# Altium footprint library 高通MSM8916 原理图+PCB Layout_QRD8916_2-4-2_half type_main board_V1.01.PcbLib: 111 footprints (part 5 of 7)
Each footprint in its own frame and in the unit in brackets; x right, y up, seen from the top. Pads: shape width x height; smd on the part's side, far side on the other; paste and mask are expansions set on the pad; w line width, h text height; cw(c..) or ccw(c..) is an arc to the next point about the centre after c.
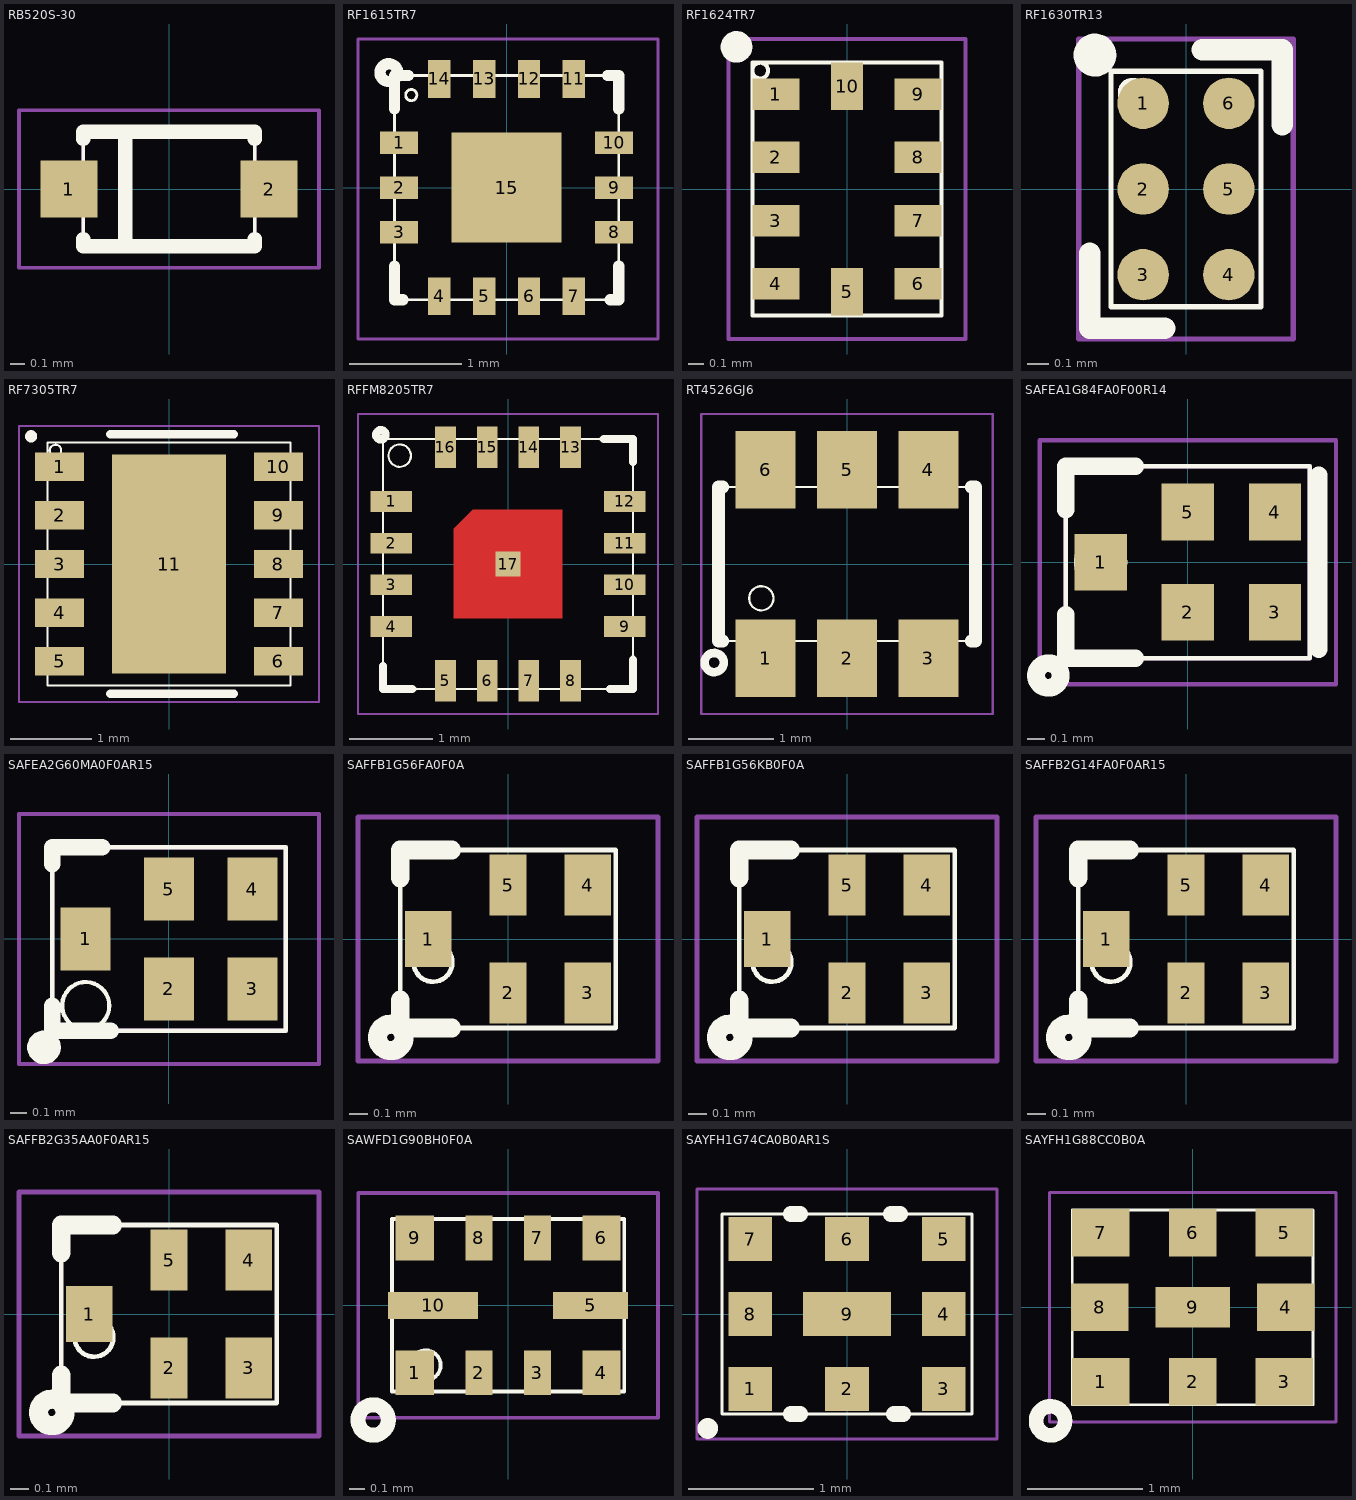
[diagram p4: the footprints below, top view; thin cyan lines are the x and y axes]

## RB520S-30 [mm]
height 0.7
pads (2):
  rect 0.4x0.4 smd mask+0.05: 1(-0.7,0) 2(0.7,0)
Top Overlay:
  lines w0.025: -0.305,-0.425 -0.305,0.375 ; -0.6,-0.4 0.6,-0.4 0.6,0.4 -0.6,0.4 -0.6,-0.4
  lines w0.1: -0.6,-0.35 -0.6,-0.4 0.6,-0.4 0.6,-0.35 ; -0.6,0.35 -0.6,0.4 0.6,0.4 0.6,0.35
  lines w0.102: -0.305,-0.4 -0.305,0.4
Top Assembly:
  lines w0.025: -1.05,-0.55 1.05,-0.55 1.05,0.55 -1.05,0.55 -1.05,-0.55
Mechanical 9:
  lines w0.025: -0.6,-0.4 0.6,-0.4 0.6,0.4 -0.6,0.4 -0.6,-0.4

## RF1615TR7 [mm]
height 0.55
pads (15):
  rect 0.338x0.2 smd paste-0.017 mask+0.05: 1(-0.959,0.4) 2(-0.959,0) 3(-0.959,-0.4) 8(0.959,-0.4) 9(0.959,0) 10(0.959,0.4)
  rect 0.2x0.338 smd paste-0.017 mask+0.05: 4(-0.6,-0.969) 5(-0.2,-0.969) 6(0.2,-0.969) 7(0.6,-0.969) 11(0.6,0.969) 12(0.2,0.969) 13(-0.2,0.969) 14(-0.6,0.969)
  rrect0% 0.98x0.98 smd mask+0.05: 15(0,0)
Top Overlay:
  circle w0.1: c-1.05,1.025 r0.079
  circle w0.025: c-0.85,0.825 r0.05
  lines w0.025: -1,-1 1,-1 1,1 -1,1 -1,-1
  lines w0.1: -1,-0.7 -1,-1 -0.925,-1 ; -1,0.7 -1,1 -0.875,1 ; 0.9,1 1,1 1,0.7 ; 0.925,-1 1,-1 1,-0.7
Top Paste:
  region: -0.45,0.45 -0.1,0.45 -0.1,0.1 -0.45,0.1
  region: 0.1,0.45 0.45,0.45 0.45,0.1 0.1,0.1
  region: -0.45,-0.1 -0.1,-0.1 -0.1,-0.45 -0.45,-0.45
  region: 0.1,-0.1 0.45,-0.1 0.45,-0.45 0.1,-0.45
Top Assembly:
  lines w0.025: -1.325,-1.35 1.35,-1.35 1.35,1.325 -1.325,1.325 -1.325,-1.35

## RF1624TR7 [mm]
height 0.95
pads (10):
  rect 0.3x0.2 smd paste-0.05 mask+0.05: 1(-0.45,0.6) 2(-0.45,0.2) 3(-0.45,-0.2) 4(-0.45,-0.6) 6(0.45,-0.6) 7(0.45,-0.2) 8(0.45,0.2) 9(0.45,0.6)
  rect 0.2x0.3 smd paste-0.05 mask+0.05: 5(0,-0.65) 10(0,0.65)
Top Overlay:
  circle w0.025: c-0.55,0.75 r0.05
  circle w0.1: c-0.7,0.9 r0.05
  lines w0.025: -0.6,-0.8 0.6,-0.8 0.6,0.8 -0.6,0.8 -0.6,-0.8
Top Assembly:
  lines w0.025: -0.75,-0.95 0.75,-0.95 0.75,0.95 -0.75,0.95 -0.75,-0.95

## RF1630TR13 [mm]
height 0.45
pads (6):
  round 0.24 smd mask+0.038: 1(-0.2,0.4) 2(-0.2,0) 3(-0.2,-0.4) 4(0.2,-0.4) 5(0.2,0) 6(0.2,0.4)
Top Overlay:
  circle w0.1: c-0.425,0.625 r0.05
  circle w0.025: c-0.25,0.45 r0.056
  lines w0.025: -0.35,-0.55 0.35,-0.55 0.35,0.55 -0.35,0.55 -0.35,-0.55
  lines w0.1: -0.45,-0.3 -0.45,-0.65 -0.1,-0.65 ; 0.075,0.65 0.45,0.65 0.45,0.3
Top Assembly:
  lines w0.025: -0.5,-0.7 0.5,-0.7 0.5,0.7 -0.5,0.7 -0.5,-0.7

## RF7305TR7 [mm]
height 0.85
pads (11):
  rect 0.6x0.35 smd mask+0.05: 1(-1.35,1.2) 2(-1.35,0.6) 3(-1.35,0) 4(-1.35,-0.6) 5(-1.35,-1.2) 6(1.35,-1.2) 7(1.35,-0.6) 8(1.35,0) 9(1.35,0.6) 10(1.35,1.2)
  rect 1.4x2.7 smd mask+0.05: 11(0,0)
Top Overlay:
  circle w0.025: c-1.4,1.4 r0.071
  circle w0.1: c-1.7,1.575 r0.025
  lines w0.025: -1.5,-1.5 1.5,-1.5 1.5,1.5 -1.5,1.5 -1.5,-1.5
  lines w0.1: -0.725,-1.6 0.8,-1.6 ; -0.725,1.6 0.8,1.6
Top Paste:
  region: -0.675,1.325 -0.675,0.175 0.675,0.175 0.675,1.325
  region: -0.675,-0.175 -0.675,-1.325 0.675,-1.325 0.675,-0.175
Top Assembly:
  lines w0.025: -1.85,-1.7 1.85,-1.7 1.85,1.7 -1.85,1.7 -1.85,-1.7

## RFFM8205TR7 [mm]
height 0.4
pads (17):
  rect 0.5x0.25 smd mask+0.05: 1(-1.4,0.75) 2(-1.4,0.25) 3(-1.4,-0.25) 4(-1.4,-0.75) 9(1.4,-0.75) 10(1.4,-0.25) 11(1.4,0.25) 12(1.4,0.75)
  rect 0.25x0.5 smd mask+0.05: 5(-0.75,-1.4) 6(-0.25,-1.4) 7(0.25,-1.4) 8(0.75,-1.4) 13(0.75,1.4) 14(0.25,1.4) 15(-0.25,1.4) 16(-0.75,1.4)
  rrect0% 0.3x0.3 smd: 17(0,0)
Top Layer:
  region: -0.425,0.65 0.65,0.65 0.65,-0.65 -0.65,-0.65 -0.65,0.425
Top Overlay:
  circle w0.1: c-1.525,1.55 r0.056
  circle w0.025: c-1.3,1.3 r0.135
  lines w0.025: -1.5,-1.5 1.5,-1.5 1.5,1.5 -1.5,1.5 -1.5,-1.5
  lines w0.1: -1.5,-1.225 -1.5,-1.5 -1.15,-1.5 ; 1.15,1.5 1.5,1.5 1.5,1.225 ; 1.225,-1.5 1.5,-1.5 1.5,-1.15
Top Paste:
  region: 0.625,-0.1 0.1,-0.1 0.1,-0.625 0.625,-0.625
  region: -0.1,-0.1 -0.625,-0.1 -0.625,-0.625 -0.1,-0.625
  region: 0.1,0.6 0.625,0.6 0.625,0.1 0.1,0.1
  region: -0.1,0.625 -0.375,0.625 -0.625,0.375 -0.625,0.1 -0.1,0.1
Top Solder:
  region: -0.7,0.45 -0.45,0.7 0.7,0.7 0.7,-0.7 -0.7,-0.7
Top Assembly:
  lines w0.025: -1.8,-1.8 1.8,-1.8 1.8,1.8 -1.8,1.8 -1.8,-1.8

## RT4526GJ6 [mm]
height 1
pads (6):
  rect 0.7x0.9 smd paste-0.1 mask+0.025: 1(-0.95,-1.1) 2(0,-1.1) 3(0.95,-1.1) 4(0.95,1.1) 5(0,1.1) 6(-0.95,1.1)
Top Overlay:
  circle w0.1: c-1.55,-1.15 r0.112
  circle w0.025: c-1,-0.4 r0.141
  lines w0.025: -1.5,-0.9 1.5,-0.9 1.5,0.9 -1.5,0.9 -1.5,-0.9
  lines w0.15: -1.45,-0.9 -1.5,-0.9 -1.5,0.9 -1.45,0.9 ; 1.45,-0.9 1.5,-0.9 1.5,0.9 1.45,0.9
Top Assembly:
  lines w0.025: -1.7,-1.75 1.7,-1.75 1.7,1.75 -1.7,1.75 -1.7,-1.75
Mechanical 9:
  lines w0.025: -1.5,-0.9 1.5,-0.9 1.5,0.9 -1.5,0.9 -1.5,-0.9

## SAFEA1G84FA0F00R14 [mm]
height 0.5
pads (5):
  rect 0.3x0.325 smd paste-0.025 mask+0.05: 1(-0.5,0) 2(0,-0.288) 3(0.5,-0.288) 4(0.5,0.288) 5(0,0.288)
Top Overlay:
  circle w0.025: c-0.5,0 r0.141
  circle w0.102: c-0.8,-0.65 r0.071
  lines w0.025: -0.7,-0.55 0.7,-0.55 0.7,0.55 -0.7,0.55 -0.7,-0.55
  lines w0.1: -0.7,-0.3 -0.7,-0.55 -0.3,-0.55 ; -0.7,0.3 -0.7,0.55 -0.3,0.55 ; 0.75,-0.5 0.75,0.5
Top Assembly:
  lines w0.025: -0.85,-0.7 0.85,-0.7 0.85,0.7 -0.85,0.7 -0.85,-0.7
Mechanical 9:
  lines w0.025: -0.7,-0.55 0.7,-0.55 0.7,0.55 -0.7,0.55 -0.7,-0.55

## SAFEA2G60MA0F0AR15 [mm]
height 0.5
pads (5):
  rect 0.3x0.38 smd paste-0.025 mask+0.05: 1(-0.5,0) 2(0,-0.3) 3(0.5,-0.3) 4(0.5,0.3) 5(0,0.3)
Top Overlay:
  circle w0.025: c-0.5,-0.4 r0.141
  circle w0.102: c-0.75,-0.65 r0.05
  lines w0.025: -0.7,-0.55 0.7,-0.55 0.7,0.55 -0.7,0.55 -0.7,-0.55
  lines w0.1: -0.7,-0.4 -0.7,-0.55 -0.35,-0.55 ; -0.7,0.45 -0.7,0.55 -0.4,0.55
Top Assembly:
  lines w0.025: -0.9,-0.75 0.9,-0.75 0.9,0.75 -0.9,0.75 -0.9,-0.75
Mechanical 9:
  lines w0.025: -0.7,-0.55 0.7,-0.55 0.7,0.55 -0.7,0.55 -0.7,-0.55

## SAFFB1G56FA0F0A [mm]
height 0.5
pads (5):
  rect 0.25x0.3 smd mask+0.05: 1(-0.425,0)
  rect 0.2x0.325 smd mask+0.05: 2(0,-0.288) 5(0,0.288)
  rect 0.25x0.325 smd mask+0.05: 3(0.425,-0.288) 4(0.425,0.288)
Top Overlay:
  circle w0.025: c-0.4,-0.125 r0.103
  circle w0.102: c-0.625,-0.525 r0.071
  lines w0.025: -0.575,-0.475 0.575,-0.475 0.575,0.475 -0.575,0.475 -0.575,-0.475
  lines w0.1: -0.575,-0.325 -0.575,-0.475 -0.3,-0.475 ; -0.575,0.325 -0.575,0.475 -0.3,0.475
Top Assembly:
  lines w0.025: -0.8,-0.65 0.8,-0.65 0.8,0.65 -0.8,0.65 -0.8,-0.65

## SAFFB1G56KB0F0A [mm]
height 0.5
pads (5):
  rect 0.25x0.3 smd mask+0.05: 1(-0.425,0)
  rect 0.2x0.325 smd mask+0.05: 2(0,-0.288) 5(0,0.288)
  rect 0.25x0.325 smd mask+0.05: 3(0.425,-0.288) 4(0.425,0.288)
Top Overlay:
  circle w0.025: c-0.4,-0.125 r0.103
  circle w0.102: c-0.625,-0.525 r0.071
  lines w0.025: -0.575,-0.475 0.575,-0.475 0.575,0.475 -0.575,0.475 -0.575,-0.475
  lines w0.1: -0.575,-0.325 -0.575,-0.475 -0.3,-0.475 ; -0.575,0.325 -0.575,0.475 -0.3,0.475
Top Assembly:
  lines w0.025: -0.8,-0.65 0.8,-0.65 0.8,0.65 -0.8,0.65 -0.8,-0.65

## SAFFB2G14FA0F0AR15 [mm]
height 0.5
pads (5):
  rect 0.25x0.3 smd mask+0.05: 1(-0.425,0)
  rect 0.2x0.325 smd mask+0.05: 2(0,-0.288) 5(0,0.288)
  rect 0.25x0.325 smd mask+0.05: 3(0.425,-0.288) 4(0.425,0.288)
Top Overlay:
  circle w0.025: c-0.4,-0.125 r0.103
  circle w0.102: c-0.625,-0.525 r0.071
  lines w0.025: -0.575,-0.475 0.575,-0.475 0.575,0.475 -0.575,0.475 -0.575,-0.475
  lines w0.1: -0.575,-0.325 -0.575,-0.475 -0.3,-0.475 ; -0.575,0.325 -0.575,0.475 -0.3,0.475
Top Assembly:
  lines w0.025: -0.8,-0.65 0.8,-0.65 0.8,0.65 -0.8,0.65 -0.8,-0.65

## SAFFB2G35AA0F0AR15 [mm]
height 0.5
pads (5):
  rect 0.25x0.3 smd mask+0.05: 1(-0.425,0)
  rect 0.2x0.325 smd mask+0.05: 2(0,-0.288) 5(0,0.288)
  rect 0.25x0.325 smd mask+0.05: 3(0.425,-0.288) 4(0.425,0.288)
Top Overlay:
  circle w0.025: c-0.4,-0.125 r0.103
  circle w0.102: c-0.625,-0.525 r0.071
  lines w0.025: -0.575,-0.475 0.575,-0.475 0.575,0.475 -0.575,0.475 -0.575,-0.475
  lines w0.1: -0.575,-0.325 -0.575,-0.475 -0.3,-0.475 ; -0.575,0.325 -0.575,0.475 -0.3,0.475
Top Assembly:
  lines w0.025: -0.8,-0.65 0.8,-0.65 0.8,0.65 -0.8,0.65 -0.8,-0.65

## SAWFD1G90BH0F0A [mm]
height 0.5
pads (10):
  rect 0.255x0.3 smd mask+0.05: 1(-0.623,-0.45) 4(0.623,-0.45) 6(0.623,0.45) 9(-0.623,0.45)
  rect 0.18x0.3 smd mask+0.05: 2(-0.195,-0.45) 3(0.195,-0.45) 7(0.195,0.45) 8(-0.195,0.45)
  rect 0.5x0.18 smd mask+0.05: 5(0.55,0)
  rect 0.6x0.18 smd mask+0.05: 10(-0.5,0)
Top Overlay:
  circle w0.1: c-0.9,-0.765 r0.101
  circle w0.025: c-0.55,-0.4 r0.1
  lines w0.025: -0.775,-0.575 0.775,-0.575 0.775,0.575 -0.775,0.575 -0.775,-0.575
Top Assembly:
  lines w0.025: -1,-0.75 1,-0.75 1,0.75 -1,0.75 -1,-0.75

## SAYFH1G74CA0B0AR1S [mm]
height 0.6
pads (9):
  rrect0% 0.35x0.35 smd paste-0.025 mask+0.05: 1(-0.775,-0.6) 2(0,-0.6) 3(0.775,-0.6) 4(0.775,0) 5(0.775,0.6) 6(0,0.6) 7(-0.775,0.6) 8(-0.775,0)
  rect 0.7x0.35 smd mask+0.05: 9(0,0)
Top Overlay:
  circle w0.025: c-0.862,-0.672 r0.066
  circle w0.127: c-1.114,-0.916 r0.019
  lines w0.025: -1,-0.8 1,-0.8 1,0.8 -1,0.8 -1,-0.8
  lines w0.127: -0.45,-0.8 -0.375,-0.8 ; -0.45,0.8 -0.375,0.8 ; 0.35,0.8 0.425,0.8 ; 0.375,-0.8 0.45,-0.8
Top Assembly:
  lines w0.025: -1.2,-1 1.2,-1 1.2,1 -1.2,1 -1.2,-1

## SAYFH1G88CC0B0A [mm]
height 0.6
pads (9):
  rect 0.5x0.415 smd mask+0.05: 1(-0.8,-0.65) 3(0.8,-0.65) 4(0.81,0) 5(0.8,0.65) 7(-0.8,0.65) 8(-0.81,0)
  rrect0% 0.415x0.415 smd mask+0.05: 2(0,-0.65) 6(0,0.65)
  rect 0.65x0.35 smd mask+0.05: 9(0,0)
Top Overlay:
  circle w0.025: c-0.887,-0.647 r0.078
  circle w0.127: c-1.239,-0.991 r0.127
  lines w0.025: -1.05,-0.85 1.05,-0.85 1.05,0.85 -1.05,0.85 -1.05,-0.85
Top Assembly:
  lines w0.025: -1.25,-1 1.25,-1 1.25,1 -1.25,1 -1.25,-1